# EAGLE library part LPC812M101JDH20 (library LPC800)
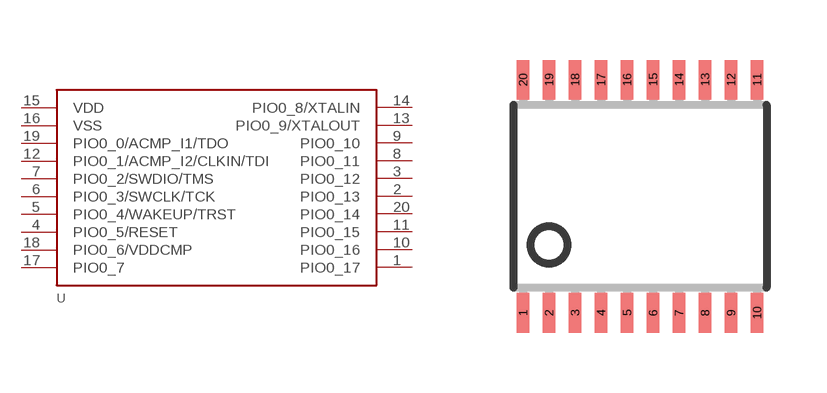
[diagram p4: symbol with the pads of TSSOP20; footprint TSSOP20]

Designator prefix -

## LPC812M101JDH20  [TSSOP20]
1  PIO0_17
2  PIO0_13
3  PIO0_12
4  PIO0_5/RESET
5  PIO0_4/WAKEUP/TRST
6  PIO0_3/SWCLK/TCK
7  PIO0_2/SWDIO/TMS
8  PIO0_11
9  PIO0_10
10  PIO0_16
11  PIO0_15
12  PIO0_1/ACMP_I2/CLKIN/TDI
13  PIO0_9/XTALOUT
14  PIO0_8/XTALIN
15  VDD
16  VSS
17  PIO0_7
18  PIO0_6/VDDCMP
19  PIO0_0/ACMP_I1/TDO
20  PIO0_14

## Footprint TSSOP20 (pad centres in mm)
TSSOP20 0.65mm pitch
smd 0.305 x 0.991: 1 -2.925,-2.918; 2 -2.275,-2.918; 3 -1.625,-2.918; 4 -0.975,-2.918; 5 -0.325,-2.918; 6 0.325,-2.918; 7 0.975,-2.918; 8 1.625,-2.918; 9 2.275,-2.918; 10 2.925,-2.918; 11 2.925,2.918; 12 2.275,2.918; 13 1.625,2.918; 14 0.975,2.918; 15 0.325,2.918; 16 -0.325,2.918; 17 -0.975,2.918; 18 -1.625,2.918; 19 -2.275,2.918; 20 -2.925,2.918